# EAGLE library part GECKO_SHIELD (library Moodlight)
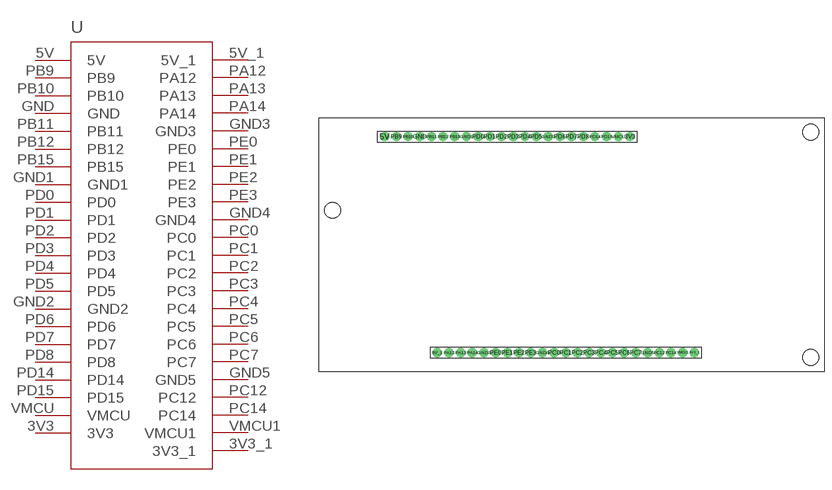
[diagram p9: symbol with the pads of GECKO_SHIELD; footprint GECKO_SHIELD]

Designator prefix U

## GECKO_SHIELD  [GECKO_SHIELD]
3V3  3V3
3V3_1  3V3_1
5V  5V
5V_1  5V_1
GND  GND
GND1  GND1
GND2  GND2
GND3  GND3
GND4  GND4
GND5  GND5
PA12  PA12
PA13  PA13
PA14  PA14
PB9  PB9
PB10  PB10
PB11  PB11
PB12  PB12
PB15  PB15
PC0  PC0
PC1  PC1
PC2  PC2
PC3  PC3
PC4  PC4
PC5  PC5
PC6  PC6
PC7  PC7
PC12  PC12
PC14  PC14
PD0  PD0
PD1  PD1
PD2  PD2
PD3  PD3
PD4  PD4
PD5  PD5
PD6  PD6
PD7  PD7
PD8  PD8
PD14  PD14
PD15  PD15
PE0  PE0
PE1  PE1
PE2  PE2
PE3  PE3
VMCU  VMCU
VMCU1  VMCU1

## Footprint GECKO_SHIELD (pad centres in mm)
drill 1.1 pad 2: 3V3 67.689,51; 3V3_1 81.659,4; 5V 14.348,51; 5V_1 25.779,4; GND 21.968,51; GND1 32.129,51; GND2 49.908,51; GND3 35.938,4; GND4 48.639,4; GND5 71.499,4; PA12 28.319,4; PA13 30.858,4; PA14 33.398,4; PB9 16.889,51; PB10 19.428,51; PB11 24.509,51; PB12 27.049,51; PB15 29.588,51; PC0 51.178,4; PC1 53.718,4; PC2 56.258,4; PC3 58.798,4; PC4 61.339,4; PC5 63.879,4; PC6 66.418,4; PC7 68.959,4; PC12 74.038,4; PC14 76.579,4; PD0 34.669,51; PD1 37.209,51; PD2 39.748,51; PD3 42.288,51; PD4 44.828,51; PD5 47.368,51; PD6 52.449,51; PD7 54.989,51; PD8 57.529,51; PD14 60.069,51; PD15 62.608,51; PE0 38.478,4; PE1 41.019,4; PE2 43.559,4; PE3 46.099,4; VMCU 65.148,51; VMCU1 79.118,4